# EAGLE library part PROJEKT_SE5_OLED_MODULE (library Library_Łukasz.Skowron)
1.5inch RGB OLED Module Whaveshare
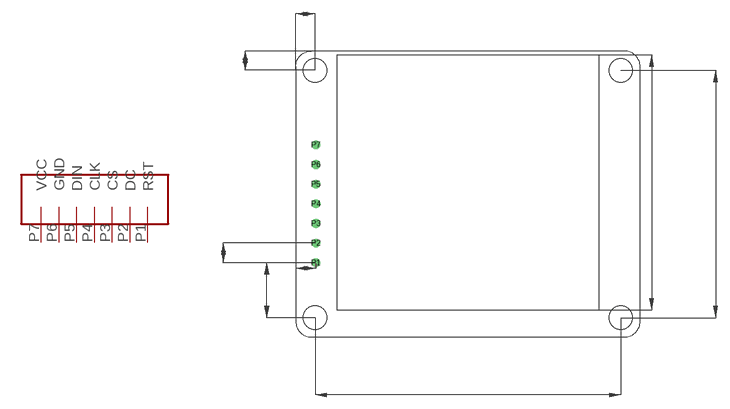
[diagram p4: symbol with the pads of PROJEKT_SE5_1.5INC_RGB_OLED; footprint PROJEKT_SE5_1.5INC_RGB_OLED]

Designator prefix -

## PROJEKT_SE5_OLED_MODULE  [PROJEKT_SE5_1.5INC_RGB_OLED]
P1  RST  in
P2  DC  in
P3  CS  in
P4  CLK  in
P5  DIN  in
P6  GND  pwr
P7  VCC  pwr

## Footprint PROJEKT_SE5_1.5INC_RGB_OLED (pad centres in mm)
drill 0.6: P1 -19.66,-8.9; P2 -19.66,-6.35; P3 -19.66,-3.81; P4 -19.66,-1.27; P5 -19.66,1.27; P6 -19.66,3.81; P7 -19.66,6.35
hole 3 at 19.75,16
hole 3 at 19.75,-16
hole 3 at -19.75,-16
hole 3 at -19.75,16